# EAGLE library part USB_MICRO-B (library ts_custom_nick_nacks)
USB Type Micro-B Connector Wurth Electronics: #629 105 136 821 <https://www.we-online.de/katalog/datasheet/629105136821.pdf>
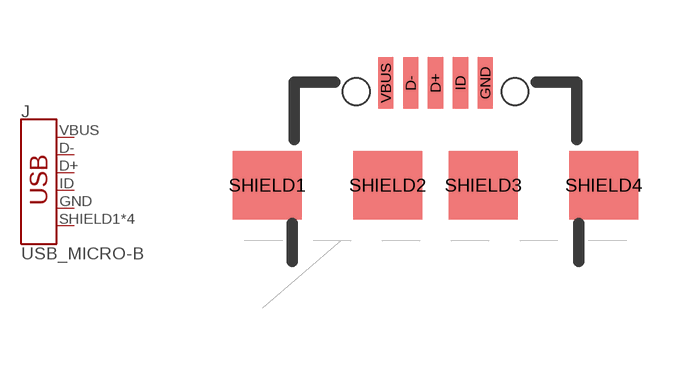
[diagram p2: symbol with the pads of USB-B-MICRO-SMD; footprint USB-B-MICRO-SMD]

Designator prefix J

## USB_MICRO-B_FEMALE-SMT (PROD_ID: CONN-11752)  [USB-B-MICRO-SMD]
D+  D+
D-  D-
GND  GND  pwr
ID  ID
SHIELD1  SHIELD
SHIELD2  SHIELD
SHIELD3  SHIELD
SHIELD4  SHIELD
VBUS  VBUS  pwr

## Footprint USB-B-MICRO-SMD (pad centres in mm)
USB - microB SMD Specifications: Pin count:5 Datasheet referenced for footprint <https://www.we-online.de/katalog/datasheet/629105136821.pdf> Example device(s): USB_MICRO-B
smd 0.4 x 1.35: D+ 0,2.675; D- -0.65,2.675; GND 1.3,2.675; ID 0.65,2.675; VBUS -1.3,2.675
smd 1.8 x 1.8: SHIELD1 -4.4,0; SHIELD2 -1.25,0; SHIELD3 1.25,0; SHIELD4 4.4,0
hole 0.7 at 2.075,2.45
hole 0.7 at -2.075,2.45